# Altium schematic symbol library Transistor.SchLib: 10 symbols
Pins are listed as number, name and electrical type; pins without a type are passive.

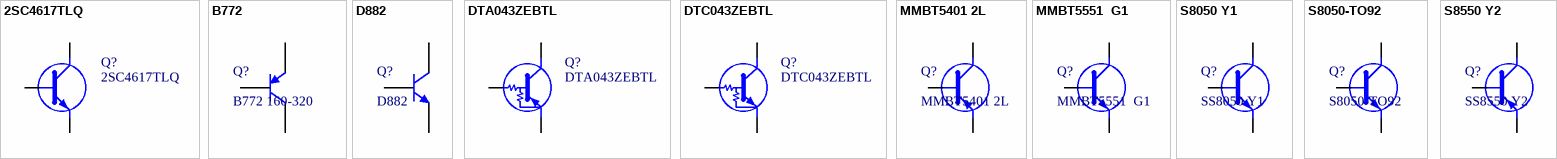
[diagram p0: symbols 2SC4617TLQ to S8550 Y2]

## 2SC4617TLQ
designator Q?
BJT,NPN,50V,150mA,180MHz,SOT416 ROHM 2SC4617TLQ NPN Bipolar Transistor, 0.15 A, 50 V, 3-Pin SOT-416; Manufacturer_Name: ROHM Semiconductor; Geometry.Height: 0.8mm; Manufacturer_Part_Number: 2SC4617TLQ; Mouser Part Number: 755-2SC4617TLQ; Mouser Price/Stock: https://www.mouser.com/Search/Refine.aspx?Keyword=755-2SC4617TLQ; RS Part Number: 1246439P; RS Price/Stock: http://uk.rs-online.com/web/p/products/1246439P; Datasheet Link: https://componentsearchengine.com/Datasheets/1/2SC4617TLQ.pdf
footprint SOT-416
pins: 1 B, 2 E, 3 C

## B772
designator Q?, comment B772 160-320
三极管; ComponentLink1Description: 供应商链接; ComponentLink1URL: http://www.szlcsc.com/product/details_25018.html; Package: SOT-89; Supplier: LC; SuppliersPartNumber: C24278
footprint SOT-89(SOT-89-3)
pins: 1 B, 2 C, 3 E

## D882
designator Q?
三极管; ComponentLink1Description: 供应商链接; ComponentLink1URL: http://www.szlcsc.com/product/details_10164.html; Package: SOT-89; Supplier: LC; SuppliersPartNumber: C9634
footprint SOT-89(SOT-89-3)
pins: 1 B, 2 C, 3 E

## DTA043ZEBTL
designator Q?
PNP Digital transistor,50V,100mA,SOT416F ROHM, DTA043ZEBTL PNP Digital Transistor, 0.1 A 50 V 4.7 k, Ratio Of 10, 3-Pin SOT-416F; Manufacturer_Name: ROHM Semiconductor; Manufacturer_Part_Number: DTC043ZEBTL; Geometry.Height: 0.85mm; Mouser Part Number: 755-DTC043ZEBTL; Mouser Price/Stock: https://www.mouser.com/Search/Refine.aspx?Keyword=755-DTC043ZEBTL; RS Part Number: 1681805; RS Price/Stock: http://uk.rs-online.com/web/p/products/1681805; Datasheet Link: http://rohmfs.rohm.com/en/products/databook/datasheet/discrete/transistor/digital/dtc043zmt2l-e.pdf; ComponentLink1Description: 生产商; ComponentLink1URL: https://www.rohm.com/products/transistors/digital-transistors/standard/dtc043zeb-product
footprint SOT-416FL
pins: 1 B, 2 E, 3 C

## DTC043ZEBTL
designator Q?
NPN Digital transistor,50V,100mA,SOT416F ROHM, DTC043ZEBTL NPN Digital Transistor, 0.1 A 50 V 4.7 k, Ratio Of 10, 3-Pin SOT-416F; Manufacturer_Name: ROHM Semiconductor; Geometry.Height: 0.85mm; Manufacturer_Part_Number: DTC043ZEBTL; Mouser Part Number: 755-DTC043ZEBTL; Mouser Price/Stock: https://www.mouser.com/Search/Refine.aspx?Keyword=755-DTC043ZEBTL; RS Part Number: 1681805; RS Price/Stock: http://uk.rs-online.com/web/p/products/1681805; Datasheet Link: http://rohmfs.rohm.com/en/products/databook/datasheet/discrete/transistor/digital/dtc043zmt2l-e.pdf; ComponentLink1Description: 生产商; ComponentLink1URL: https://www.rohm.com/products/transistors/digital-transistors/standard/dtc043zeb-product
footprint SOT-416FL
pins: 1 B, 2 E, 3 C

## MMBT5401 2L
designator Q?
三极管; ComponentLink1Description: 供应商链接; ComponentLink1URL: http://www.szlcsc.com/product/details_8818.html; Package: SOT-23; Supplier: LC; SuppliersPartNumber: C8326
footprint SOT-23-3
pins: 1 B, 2 E, 3 C

## MMBT5551  G1
designator Q?
三极管; ComponentLink1Description: 供应商链接; ComponentLink1URL: http://www.szlcsc.com/product/details_2502.html; Package: SOT-23; Supplier: LC; SuppliersPartNumber: C2145
footprint SOT-23-3
pins: 1 B, 2 E, 3 C

## S8050 Y1
designator Q?, comment SS8050 Y1
三极管; ComponentLink1Description: 供应商链接; ComponentLink1URL: http://www.szlcsc.com/product/details_2507.html; Package: SOT-23; Supplier: LC; SuppliersPartNumber: C2150
footprint SOT-23-3
pins: 1 B, 2 E, 3 C

## S8050-TO92
designator Q?
三极管; ComponentLink1Description: 供应商链接; ComponentLink1URL: http://www.szlcsc.com/product/details_2507.html; Package: SOT-23; Supplier: LC; SuppliersPartNumber: C2150
footprint TO-92_S8050
pins: 1 E, 2 B, 3 C

## S8550 Y2
designator Q?, comment SS8550 Y2
三极管; ComponentLink1Description: 供应商链接; ComponentLink1URL: http://www.szlcsc.com/product/details_9037.html; Package: SOT-23; Supplier: LC; SuppliersPartNumber: C8542
footprint SOT-23-3
pins: 1 B, 2 E, 3 C